# Altium integrated library Xilinx XC17S00.IntLib: 52 symbols
Pins are listed as number, name and electrical type; pins without a type are passive.

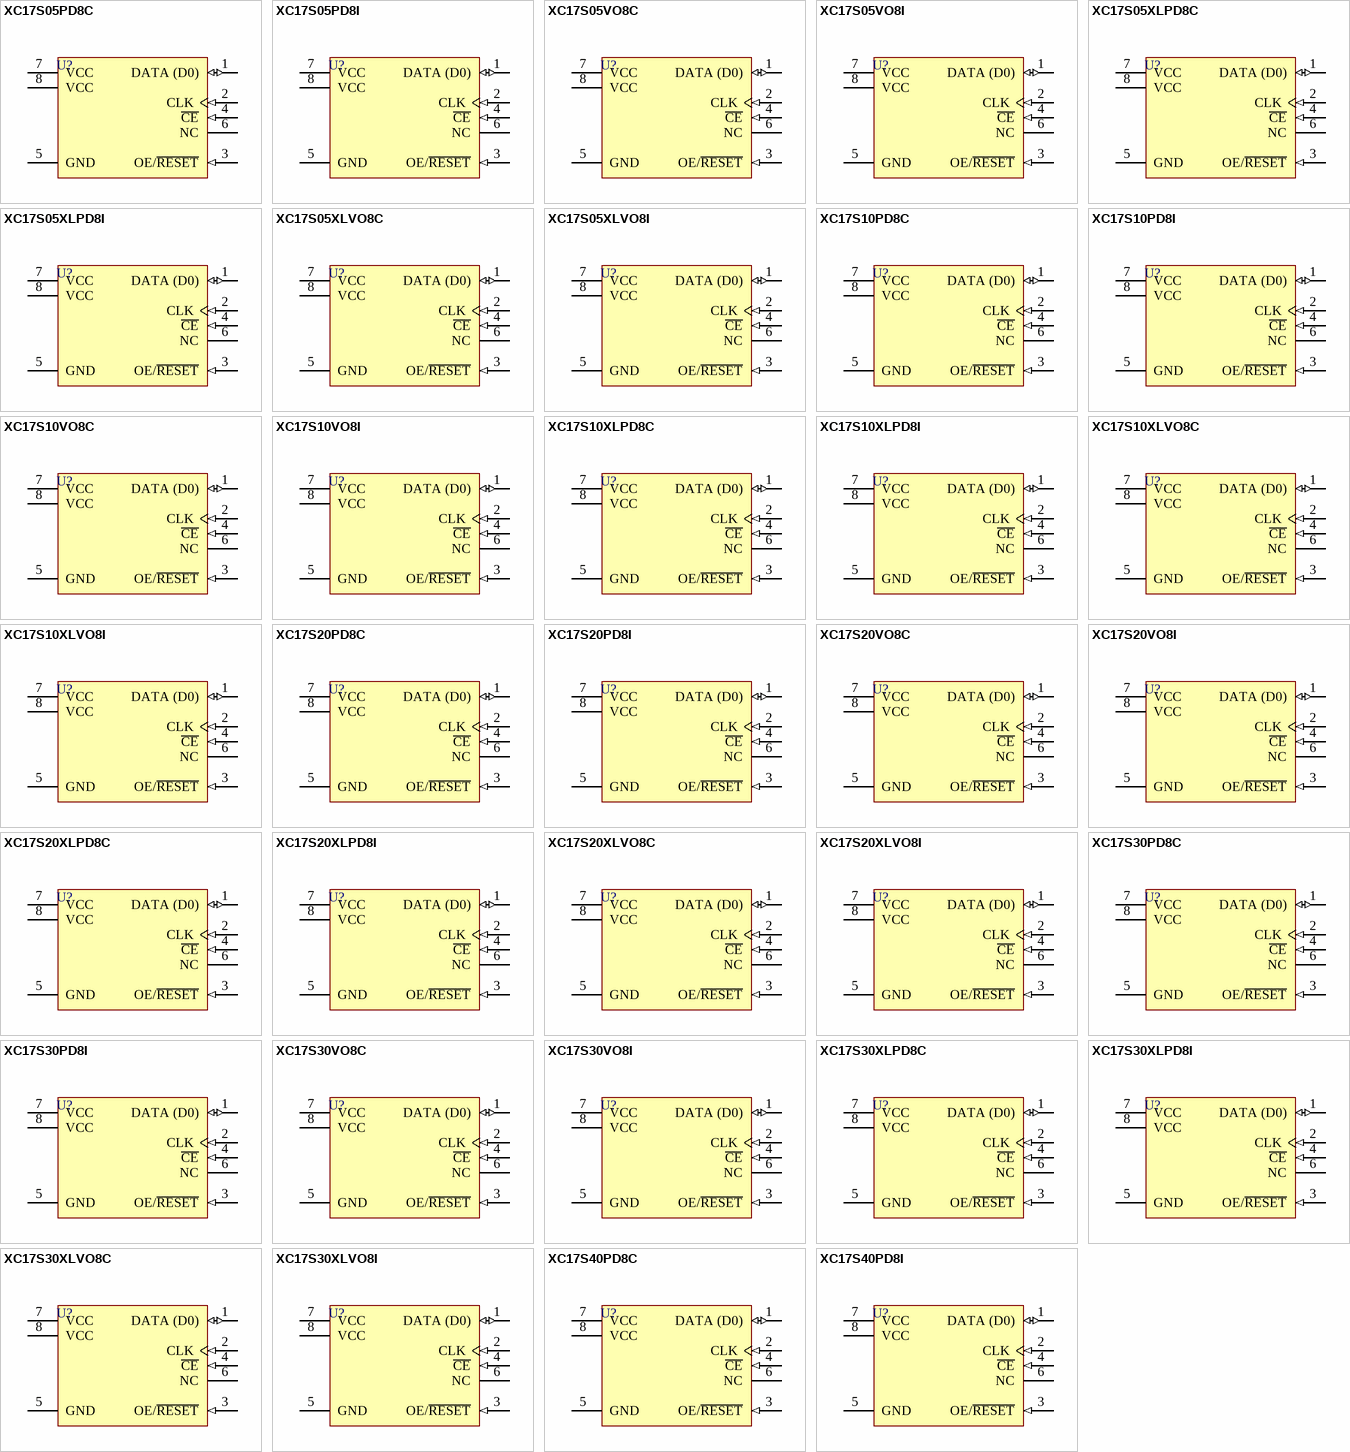
[diagram p0: symbols XC17S05PD8C to XC17S40PD8I]

## XC17S05PD8C
designator U?
XC17S00 Series, One-Time Programmable Configuration 5V PROM, 8-Pin PDIP, XCS05 Compatible, Commercial Grade; PackageDocument: ver1.1, Apr-2001; Published: 17-Dec-2003; DatasheetDocument: ver1.1, Nov-2002; PackageReference: PD8; Publisher: Altium Limited; Code_JEDEC: MS-001-BA
footprint PD8 (8-Pin Plastic DIP (PD8))
pins: 1 DATA (D0) (io) "Data Output.", 2 CLK (in) "Clock input for internal address counter.", 3 OE/~{RESET} (in) "DATA Output Enable/Address Counter Reset", 4 ~{CE} (in) "Reset internal Address Counter, Disable DATA Output, Force device into Standby Mode.", 5 GND (power) "Ground.", 6 NC "No Connection.", 7 VCC (power) "Positive Supply.", 8 VCC (power) "Positive Supply."

## XC17S05PD8I
designator U?
XC17S00 Series, One-Time Programmable Configuration 5V PROM, 8-Pin PDIP, XCS05 Compatible, Industrial Grade; PackageDocument: ver1.1, Apr-2001; Published: 17-Dec-2003; DatasheetDocument: ver1.1, Nov-2002; PackageReference: PD8; Publisher: Altium Limited; Code_JEDEC: MS-001-BA
footprint PD8 (8-Pin Plastic DIP (PD8))
pins: 1 DATA (D0) (io) "Data Output.", 2 CLK (in) "Clock input for internal address counter.", 3 OE/~{RESET} (in) "DATA Output Enable/Address Counter Reset", 4 ~{CE} (in) "Reset internal Address Counter, Disable DATA Output, Force device into Standby Mode.", 5 GND (power) "Ground.", 6 NC "No Connection.", 7 VCC (power) "Positive Supply.", 8 VCC (power) "Positive Supply."

## XC17S05VO8C
designator U?
XC17S00 Series, One-Time Programmable Configuration 5V PROM, 8-Pin TSOP, XCS05 Compatible, Commercial Grade; PackageDocument: ver1.1, Apr-2001; Published: 17-Dec-2003; DatasheetDocument: ver1.1, Nov-2002; PackageReference: VO8; Publisher: Altium Limited
footprint VO8 (8-Pin Thin Small-Outline Package (VO8))
pins: 1 DATA (D0) (io) "Data Output.", 2 CLK (in) "Clock input for internal address counter.", 3 OE/~{RESET} (in) "DATA Output Enable/Address Counter Reset", 4 ~{CE} (in) "Reset internal Address Counter, Disable DATA Output, Force device into Standby Mode.", 5 GND (power) "Ground.", 6 NC "No Connection.", 7 VCC (power) "Positive Supply.", 8 VCC (power) "Positive Supply."

## XC17S05VO8I
designator U?
XC17S00 Series, One-Time Programmable Configuration 5V PROM, 8-Pin TSOP, XCS05 Compatible, Industrial Grade; PackageDocument: ver1.1, Apr-2001; Published: 17-Dec-2003; DatasheetDocument: ver1.1, Nov-2002; PackageReference: VO8; Publisher: Altium Limited
footprint VO8 (8-Pin Thin Small-Outline Package (VO8))
pins: 1 DATA (D0) (io) "Data Output.", 2 CLK (in) "Clock input for internal address counter.", 3 OE/~{RESET} (in) "DATA Output Enable/Address Counter Reset", 4 ~{CE} (in) "Reset internal Address Counter, Disable DATA Output, Force device into Standby Mode.", 5 GND (power) "Ground.", 6 NC "No Connection.", 7 VCC (power) "Positive Supply.", 8 VCC (power) "Positive Supply."

## XC17S05XLPD8C
designator U?
XC17S00XL Series, One-Time Programmable Configuration 3.3V PROM, 8-Pin PDIP, XCS05XL Compatible, Commercial Grade; PackageDocument: ver1.1, Apr-2001; Published: 17-Dec-2003; DatasheetDocument: ver1.1, Nov-2002; PackageReference: PD8; Publisher: Altium Limited; Code_JEDEC: MS-001-BA
footprint PD8 (8-Pin Plastic DIP (PD8))
pins: 1 DATA (D0) (io) "Data Output.", 2 CLK (in) "Clock input for internal address counter.", 3 OE/~{RESET} (in) "DATA Output Enable/Address Counter Reset", 4 ~{CE} (in) "Reset internal Address Counter, Disable DATA Output, Force device into Standby Mode.", 5 GND (power) "Ground.", 6 NC "No Connection.", 7 VCC (power) "Positive Supply.", 8 VCC (power) "Positive Supply."

## XC17S05XLPD8I
designator U?
XC17S00XL Series, One-Time Programmable Configuration 3.3V PROM, 8-Pin PDIP, XCS05XL Compatible, Industrial Grade; PackageDocument: ver1.1, Apr-2001; Published: 17-Dec-2003; DatasheetDocument: ver1.1, Nov-2002; PackageReference: PD8; Publisher: Altium Limited; Code_JEDEC: MS-001-BA
footprint PD8 (8-Pin Plastic DIP (PD8))
pins: 1 DATA (D0) (io) "Data Output.", 2 CLK (in) "Clock input for internal address counter.", 3 OE/~{RESET} (in) "DATA Output Enable/Address Counter Reset", 4 ~{CE} (in) "Reset internal Address Counter, Disable DATA Output, Force device into Standby Mode.", 5 GND (power) "Ground.", 6 NC "No Connection.", 7 VCC (power) "Positive Supply.", 8 VCC (power) "Positive Supply."

## XC17S05XLVO8C
designator U?
XC17S00XL Series, One-Time Programmable Configuration 3.3V PROM, 8-Pin TSOP, XCS05XL Compatible, Commercial Grade; PackageDocument: ver1.1, Apr-2001; Published: 17-Dec-2003; DatasheetDocument: ver1.1, Nov-2002; PackageReference: VO8; Publisher: Altium Limited
footprint VO8 (8-Pin Thin Small-Outline Package (VO8))
pins: 1 DATA (D0) (io) "Data Output.", 2 CLK (in) "Clock input for internal address counter.", 3 OE/~{RESET} (in) "DATA Output Enable/Address Counter Reset", 4 ~{CE} (in) "Reset internal Address Counter, Disable DATA Output, Force device into Standby Mode.", 5 GND (power) "Ground.", 6 NC "No Connection.", 7 VCC (power) "Positive Supply.", 8 VCC (power) "Positive Supply."

## XC17S05XLVO8I
designator U?
XC17S00XL Series, One-Time Programmable Configuration 3.3V PROM, 8-Pin TSOP, XCS05XL Compatible, Industrial Grade; PackageDocument: ver1.1, Apr-2001; Published: 17-Dec-2003; DatasheetDocument: ver1.1, Nov-2002; PackageReference: VO8; Publisher: Altium Limited
footprint VO8 (8-Pin Thin Small-Outline Package (VO8))
pins: 1 DATA (D0) (io) "Data Output.", 2 CLK (in) "Clock input for internal address counter.", 3 OE/~{RESET} (in) "DATA Output Enable/Address Counter Reset", 4 ~{CE} (in) "Reset internal Address Counter, Disable DATA Output, Force device into Standby Mode.", 5 GND (power) "Ground.", 6 NC "No Connection.", 7 VCC (power) "Positive Supply.", 8 VCC (power) "Positive Supply."

## XC17S10PD8C
designator U?
XC17S00 Series, One-Time Programmable Configuration 5V PROM, 8-Pin PDIP, XCS10 Compatible, Commercial Grade; PackageDocument: ver1.1, Apr-2001; Published: 17-Dec-2003; DatasheetDocument: ver1.1, Nov-2002; PackageReference: PD8; Publisher: Altium Limited; Code_JEDEC: MS-001-BA
footprint PD8 (8-Pin Plastic DIP (PD8))
pins: 1 DATA (D0) (io) "Data Output.", 2 CLK (in) "Clock input for internal address counter.", 3 OE/~{RESET} (in) "DATA Output Enable/Address Counter Reset", 4 ~{CE} (in) "Reset internal Address Counter, Disable DATA Output, Force device into Standby Mode.", 5 GND (power) "Ground.", 6 NC "No Connection.", 7 VCC (power) "Positive Supply.", 8 VCC (power) "Positive Supply."

## XC17S10PD8I
designator U?
XC17S00 Series, One-Time Programmable Configuration 5V PROM, 8-Pin PDIP, XCS10 Compatible, Industrial Grade; PackageDocument: ver1.1, Apr-2001; Published: 17-Dec-2003; DatasheetDocument: ver1.1, Nov-2002; PackageReference: PD8; Publisher: Altium Limited; Code_JEDEC: MS-001-BA
footprint PD8 (8-Pin Plastic DIP (PD8))
pins: 1 DATA (D0) (io) "Data Output.", 2 CLK (in) "Clock input for internal address counter.", 3 OE/~{RESET} (in) "DATA Output Enable/Address Counter Reset", 4 ~{CE} (in) "Reset internal Address Counter, Disable DATA Output, Force device into Standby Mode.", 5 GND (power) "Ground.", 6 NC "No Connection.", 7 VCC (power) "Positive Supply.", 8 VCC (power) "Positive Supply."

## XC17S10VO8C
designator U?
XC17S00 Series, One-Time Programmable Configuration 5V PROM, 8-Pin TSOP, XCS10 Compatible, Commercial Grade; PackageDocument: ver1.1, Apr-2001; Published: 17-Dec-2003; DatasheetDocument: ver1.1, Nov-2002; PackageReference: VO8; Publisher: Altium Limited
footprint VO8 (8-Pin Thin Small-Outline Package (VO8))
pins: 1 DATA (D0) (io) "Data Output.", 2 CLK (in) "Clock input for internal address counter.", 3 OE/~{RESET} (in) "DATA Output Enable/Address Counter Reset", 4 ~{CE} (in) "Reset internal Address Counter, Disable DATA Output, Force device into Standby Mode.", 5 GND (power) "Ground.", 6 NC "No Connection.", 7 VCC (power) "Positive Supply.", 8 VCC (power) "Positive Supply."

## XC17S10VO8I
designator U?
XC17S00 Series, One-Time Programmable Configuration 5V PROM, 8-Pin TSOP, XCS10 Compatible, Industrial Grade; PackageDocument: ver1.1, Apr-2001; Published: 17-Dec-2003; DatasheetDocument: ver1.1, Nov-2002; PackageReference: VO8; Publisher: Altium Limited
footprint VO8 (8-Pin Thin Small-Outline Package (VO8))
pins: 1 DATA (D0) (io) "Data Output.", 2 CLK (in) "Clock input for internal address counter.", 3 OE/~{RESET} (in) "DATA Output Enable/Address Counter Reset", 4 ~{CE} (in) "Reset internal Address Counter, Disable DATA Output, Force device into Standby Mode.", 5 GND (power) "Ground.", 6 NC "No Connection.", 7 VCC (power) "Positive Supply.", 8 VCC (power) "Positive Supply."

## XC17S10XLPD8C
designator U?
XC17S00XL Series, One-Time Programmable Configuration 3.3V PROM, 8-Pin PDIP, XCS10XL Compatible, Commercial Grade; PackageDocument: ver1.1, Apr-2001; Published: 17-Dec-2003; DatasheetDocument: ver1.1, Nov-2002; PackageReference: PD8; Publisher: Altium Limited; Code_JEDEC: MS-001-BA
footprint PD8 (8-Pin Plastic DIP (PD8))
pins: 1 DATA (D0) (io) "Data Output.", 2 CLK (in) "Clock input for internal address counter.", 3 OE/~{RESET} (in) "DATA Output Enable/Address Counter Reset", 4 ~{CE} (in) "Reset internal Address Counter, Disable DATA Output, Force device into Standby Mode.", 5 GND (power) "Ground.", 6 NC "No Connection.", 7 VCC (power) "Positive Supply.", 8 VCC (power) "Positive Supply."

## XC17S10XLPD8I
designator U?
XC17S00XL Series, One-Time Programmable Configuration 3.3V PROM, 8-Pin PDIP, XCS10XL Compatible, Industrial Grade; PackageDocument: ver1.1, Apr-2001; Published: 17-Dec-2003; DatasheetDocument: ver1.1, Nov-2002; PackageReference: PD8; Publisher: Altium Limited; Code_JEDEC: MS-001-BA
footprint PD8 (8-Pin Plastic DIP (PD8))
pins: 1 DATA (D0) (io) "Data Output.", 2 CLK (in) "Clock input for internal address counter.", 3 OE/~{RESET} (in) "DATA Output Enable/Address Counter Reset", 4 ~{CE} (in) "Reset internal Address Counter, Disable DATA Output, Force device into Standby Mode.", 5 GND (power) "Ground.", 6 NC "No Connection.", 7 VCC (power) "Positive Supply.", 8 VCC (power) "Positive Supply."

## XC17S10XLVO8C
designator U?
XC17S00XL Series, One-Time Programmable Configuration 3.3V PROM, 8-Pin TSOP, XCS10XL Compatible, Commercial Grade; PackageDocument: ver1.1, Apr-2001; Published: 17-Dec-2003; DatasheetDocument: ver1.1, Nov-2002; PackageReference: VO8; Publisher: Altium Limited
footprint VO8 (8-Pin Thin Small-Outline Package (VO8))
pins: 1 DATA (D0) (io) "Data Output.", 2 CLK (in) "Clock input for internal address counter.", 3 OE/~{RESET} (in) "DATA Output Enable/Address Counter Reset", 4 ~{CE} (in) "Reset internal Address Counter, Disable DATA Output, Force device into Standby Mode.", 5 GND (power) "Ground.", 6 NC "No Connection.", 7 VCC (power) "Positive Supply.", 8 VCC (power) "Positive Supply."

## XC17S10XLVO8I
designator U?
XC17S00XL Series, One-Time Programmable Configuration 3.3V PROM, 8-Pin TSOP, XCS10XL Compatible, Industrial Grade; PackageDocument: ver1.1, Apr-2001; Published: 17-Dec-2003; DatasheetDocument: ver1.1, Nov-2002; PackageReference: VO8; Publisher: Altium Limited
footprint VO8 (8-Pin Thin Small-Outline Package (VO8))
pins: 1 DATA (D0) (io) "Data Output.", 2 CLK (in) "Clock input for internal address counter.", 3 OE/~{RESET} (in) "DATA Output Enable/Address Counter Reset", 4 ~{CE} (in) "Reset internal Address Counter, Disable DATA Output, Force device into Standby Mode.", 5 GND (power) "Ground.", 6 NC "No Connection.", 7 VCC (power) "Positive Supply.", 8 VCC (power) "Positive Supply."

## XC17S20PD8C
designator U?
XC17S00 Series, One-Time Programmable Configuration 5V PROM, 8-Pin PDIP, XCS20 Compatible, Commercial Grade; PackageDocument: ver1.1, Apr-2001; Published: 17-Dec-2003; DatasheetDocument: ver1.1, Nov-2002; PackageReference: PD8; Publisher: Altium Limited; Code_JEDEC: MS-001-BA
footprint PD8 (8-Pin Plastic DIP (PD8))
pins: 1 DATA (D0) (io) "Data Output.", 2 CLK (in) "Clock input for internal address counter.", 3 OE/~{RESET} (in) "DATA Output Enable/Address Counter Reset", 4 ~{CE} (in) "Reset internal Address Counter, Disable DATA Output, Force device into Standby Mode.", 5 GND (power) "Ground.", 6 NC "No Connection.", 7 VCC (power) "Positive Supply.", 8 VCC (power) "Positive Supply."

## XC17S20PD8I
designator U?
XC17S00 Series, One-Time Programmable Configuration 5V PROM, 8-Pin PDIP, XCS20 Compatible, Industrial Grade; PackageDocument: ver1.1, Apr-2001; Published: 17-Dec-2003; DatasheetDocument: ver1.1, Nov-2002; PackageReference: PD8; Publisher: Altium Limited; Code_JEDEC: MS-001-BA
footprint PD8 (8-Pin Plastic DIP (PD8))
pins: 1 DATA (D0) (io) "Data Output.", 2 CLK (in) "Clock input for internal address counter.", 3 OE/~{RESET} (in) "DATA Output Enable/Address Counter Reset", 4 ~{CE} (in) "Reset internal Address Counter, Disable DATA Output, Force device into Standby Mode.", 5 GND (power) "Ground.", 6 NC "No Connection.", 7 VCC (power) "Positive Supply.", 8 VCC (power) "Positive Supply."

## XC17S20VO8C
designator U?
XC17S00 Series, One-Time Programmable Configuration 5V PROM, 8-Pin TSOP, XCS20 Compatible, Commercial Grade; PackageDocument: ver1.1, Apr-2001; Published: 17-Dec-2003; DatasheetDocument: ver1.1, Nov-2002; PackageReference: VO8; Publisher: Altium Limited
footprint VO8 (8-Pin Thin Small-Outline Package (VO8))
pins: 1 DATA (D0) (io) "Data Output.", 2 CLK (in) "Clock input for internal address counter.", 3 OE/~{RESET} (in) "DATA Output Enable/Address Counter Reset", 4 ~{CE} (in) "Reset internal Address Counter, Disable DATA Output, Force device into Standby Mode.", 5 GND (power) "Ground.", 6 NC "No Connection.", 7 VCC (power) "Positive Supply.", 8 VCC (power) "Positive Supply."

## XC17S20VO8I
designator U?
XC17S00 Series, One-Time Programmable Configuration 5V PROM, 8-Pin TSOP, XCS20 Compatible, Industrial Grade; PackageDocument: ver1.1, Apr-2001; Published: 17-Dec-2003; DatasheetDocument: ver1.1, Nov-2002; PackageReference: VO8; Publisher: Altium Limited
footprint VO8 (8-Pin Thin Small-Outline Package (VO8))
pins: 1 DATA (D0) (io) "Data Output.", 2 CLK (in) "Clock input for internal address counter.", 3 OE/~{RESET} (in) "DATA Output Enable/Address Counter Reset", 4 ~{CE} (in) "Reset internal Address Counter, Disable DATA Output, Force device into Standby Mode.", 5 GND (power) "Ground.", 6 NC "No Connection.", 7 VCC (power) "Positive Supply.", 8 VCC (power) "Positive Supply."

## XC17S20XLPD8C
designator U?
XC17S00XL Series, One-Time Programmable Configuration 3.3V PROM, 8-Pin PDIP, XCS20XL Compatible, Commercial Grade; PackageDocument: ver1.1, Apr-2001; Published: 17-Dec-2003; DatasheetDocument: ver1.1, Nov-2002; PackageReference: PD8; Publisher: Altium Limited; Code_JEDEC: MS-001-BA
footprint PD8 (8-Pin Plastic DIP (PD8))
pins: 1 DATA (D0) (io) "Data Output.", 2 CLK (in) "Clock input for internal address counter.", 3 OE/~{RESET} (in) "DATA Output Enable/Address Counter Reset", 4 ~{CE} (in) "Reset internal Address Counter, Disable DATA Output, Force device into Standby Mode.", 5 GND (power) "Ground.", 6 NC "No Connection.", 7 VCC (power) "Positive Supply.", 8 VCC (power) "Positive Supply."

## XC17S20XLPD8I
designator U?
XC17S00XL Series, One-Time Programmable Configuration 3.3V PROM, 8-Pin PDIP, XCS20XL Compatible, Industrial Grade; PackageDocument: ver1.1, Apr-2001; Published: 17-Dec-2003; DatasheetDocument: ver1.1, Nov-2002; PackageReference: PD8; Publisher: Altium Limited; Code_JEDEC: MS-001-BA
footprint PD8 (8-Pin Plastic DIP (PD8))
pins: 1 DATA (D0) (io) "Data Output.", 2 CLK (in) "Clock input for internal address counter.", 3 OE/~{RESET} (in) "DATA Output Enable/Address Counter Reset", 4 ~{CE} (in) "Reset internal Address Counter, Disable DATA Output, Force device into Standby Mode.", 5 GND (power) "Ground.", 6 NC "No Connection.", 7 VCC (power) "Positive Supply.", 8 VCC (power) "Positive Supply."

## XC17S20XLVO8C
designator U?
XC17S00XL Series, One-Time Programmable Configuration 3.3V PROM, 8-Pin TSOP, XCS20XL Compatible, Commercial Grade; PackageDocument: ver1.1, Apr-2001; Published: 17-Dec-2003; DatasheetDocument: ver1.1, Nov-2002; PackageReference: VO8; Publisher: Altium Limited
footprint VO8 (8-Pin Thin Small-Outline Package (VO8))
pins: 1 DATA (D0) (io) "Data Output.", 2 CLK (in) "Clock input for internal address counter.", 3 OE/~{RESET} (in) "DATA Output Enable/Address Counter Reset", 4 ~{CE} (in) "Reset internal Address Counter, Disable DATA Output, Force device into Standby Mode.", 5 GND (power) "Ground.", 6 NC "No Connection.", 7 VCC (power) "Positive Supply.", 8 VCC (power) "Positive Supply."

## XC17S20XLVO8I
designator U?
XC17S00XL Series, One-Time Programmable Configuration 3.3V PROM, 8-Pin TSOP, XCS20XL Compatible, Industrial Grade; PackageDocument: ver1.1, Apr-2001; Published: 17-Dec-2003; DatasheetDocument: ver1.1, Nov-2002; PackageReference: VO8; Publisher: Altium Limited
footprint VO8 (8-Pin Thin Small-Outline Package (VO8))
pins: 1 DATA (D0) (io) "Data Output.", 2 CLK (in) "Clock input for internal address counter.", 3 OE/~{RESET} (in) "DATA Output Enable/Address Counter Reset", 4 ~{CE} (in) "Reset internal Address Counter, Disable DATA Output, Force device into Standby Mode.", 5 GND (power) "Ground.", 6 NC "No Connection.", 7 VCC (power) "Positive Supply.", 8 VCC (power) "Positive Supply."

## XC17S30PD8C
designator U?
XC17S00 Series, One-Time Programmable Configuration 5V PROM, 8-Pin PDIP, XCS30 Compatible, Commercial Grade; PackageDocument: ver1.1, Apr-2001; Published: 17-Dec-2003; DatasheetDocument: ver1.1, Nov-2002; PackageReference: PD8; Publisher: Altium Limited; Code_JEDEC: MS-001-BA
footprint PD8 (8-Pin Plastic DIP (PD8))
pins: 1 DATA (D0) (io) "Data Output.", 2 CLK (in) "Clock input for internal address counter.", 3 OE/~{RESET} (in) "DATA Output Enable/Address Counter Reset", 4 ~{CE} (in) "Reset internal Address Counter, Disable DATA Output, Force device into Standby Mode.", 5 GND (power) "Ground.", 6 NC "No Connection.", 7 VCC (power) "Positive Supply.", 8 VCC (power) "Positive Supply."

## XC17S30PD8I
designator U?
XC17S00 Series, One-Time Programmable Configuration 5V PROM, 8-Pin PDIP, XCS30 Compatible, Industrial Grade; PackageDocument: ver1.1, Apr-2001; Published: 17-Dec-2003; DatasheetDocument: ver1.1, Nov-2002; PackageReference: PD8; Publisher: Altium Limited; Code_JEDEC: MS-001-BA
footprint PD8 (8-Pin Plastic DIP (PD8))
pins: 1 DATA (D0) (io) "Data Output.", 2 CLK (in) "Clock input for internal address counter.", 3 OE/~{RESET} (in) "DATA Output Enable/Address Counter Reset", 4 ~{CE} (in) "Reset internal Address Counter, Disable DATA Output, Force device into Standby Mode.", 5 GND (power) "Ground.", 6 NC "No Connection.", 7 VCC (power) "Positive Supply.", 8 VCC (power) "Positive Supply."

## XC17S30VO8C
designator U?
XC17S00 Series, One-Time Programmable Configuration 5V PROM, 8-Pin TSOP, XCS30 Compatible, Commercial Grade; PackageDocument: ver1.1, Apr-2001; Published: 17-Dec-2003; DatasheetDocument: ver1.1, Nov-2002; PackageReference: VO8; Publisher: Altium Limited
footprint VO8 (8-Pin Thin Small-Outline Package (VO8))
pins: 1 DATA (D0) (io) "Data Output.", 2 CLK (in) "Clock input for internal address counter.", 3 OE/~{RESET} (in) "DATA Output Enable/Address Counter Reset", 4 ~{CE} (in) "Reset internal Address Counter, Disable DATA Output, Force device into Standby Mode.", 5 GND (power) "Ground.", 6 NC "No Connection.", 7 VCC (power) "Positive Supply.", 8 VCC (power) "Positive Supply."

## XC17S30VO8I
designator U?
XC17S00 Series, One-Time Programmable Configuration 5V PROM, 8-Pin TSOP, XCS30 Compatible, Industrial Grade; PackageDocument: ver1.1, Apr-2001; Published: 17-Dec-2003; DatasheetDocument: ver1.1, Nov-2002; PackageReference: VO8; Publisher: Altium Limited
footprint VO8 (8-Pin Thin Small-Outline Package (VO8))
pins: 1 DATA (D0) (io) "Data Output.", 2 CLK (in) "Clock input for internal address counter.", 3 OE/~{RESET} (in) "DATA Output Enable/Address Counter Reset", 4 ~{CE} (in) "Reset internal Address Counter, Disable DATA Output, Force device into Standby Mode.", 5 GND (power) "Ground.", 6 NC "No Connection.", 7 VCC (power) "Positive Supply.", 8 VCC (power) "Positive Supply."

## XC17S30XLPD8C
designator U?
XC17S00XL Series, One-Time Programmable Configuration 3.3V PROM, 8-Pin PDIP, XCS30XL Compatible, Commercial Grade; PackageDocument: ver1.1, Apr-2001; Published: 17-Dec-2003; DatasheetDocument: ver1.1, Nov-2002; PackageReference: PD8; Publisher: Altium Limited; Code_JEDEC: MS-001-BA
footprint PD8 (8-Pin Plastic DIP (PD8))
pins: 1 DATA (D0) (io) "Data Output.", 2 CLK (in) "Clock input for internal address counter.", 3 OE/~{RESET} (in) "DATA Output Enable/Address Counter Reset", 4 ~{CE} (in) "Reset internal Address Counter, Disable DATA Output, Force device into Standby Mode.", 5 GND (power) "Ground.", 6 NC "No Connection.", 7 VCC (power) "Positive Supply.", 8 VCC (power) "Positive Supply."

## XC17S30XLPD8I
designator U?
XC17S00XL Series, One-Time Programmable Configuration 3.3V PROM, 8-Pin PDIP, XCS30XL Compatible, Industrial Grade; PackageDocument: ver1.1, Apr-2001; Published: 17-Dec-2003; DatasheetDocument: ver1.1, Nov-2002; PackageReference: PD8; Publisher: Altium Limited; Code_JEDEC: MS-001-BA
footprint PD8 (8-Pin Plastic DIP (PD8))
pins: 1 DATA (D0) (io) "Data Output.", 2 CLK (in) "Clock input for internal address counter.", 3 OE/~{RESET} (in) "DATA Output Enable/Address Counter Reset", 4 ~{CE} (in) "Reset internal Address Counter, Disable DATA Output, Force device into Standby Mode.", 5 GND (power) "Ground.", 6 NC "No Connection.", 7 VCC (power) "Positive Supply.", 8 VCC (power) "Positive Supply."

## XC17S30XLVO8C
designator U?
XC17S00XL Series, One-Time Programmable Configuration 3.3V PROM, 8-Pin TSOP, XCS30XL Compatible, Commercial Grade; PackageDocument: ver1.1, Apr-2001; Published: 17-Dec-2003; DatasheetDocument: ver1.1, Nov-2002; PackageReference: VO8; Publisher: Altium Limited
footprint VO8 (8-Pin Thin Small-Outline Package (VO8))
pins: 1 DATA (D0) (io) "Data Output.", 2 CLK (in) "Clock input for internal address counter.", 3 OE/~{RESET} (in) "DATA Output Enable/Address Counter Reset", 4 ~{CE} (in) "Reset internal Address Counter, Disable DATA Output, Force device into Standby Mode.", 5 GND (power) "Ground.", 6 NC "No Connection.", 7 VCC (power) "Positive Supply.", 8 VCC (power) "Positive Supply."

## XC17S30XLVO8I
designator U?
XC17S00XL Series, One-Time Programmable Configuration 3.3V PROM, 8-Pin TSOP, XCS30XL Compatible, Industrial Grade; PackageDocument: ver1.1, Apr-2001; Published: 17-Dec-2003; DatasheetDocument: ver1.1, Nov-2002; PackageReference: VO8; Publisher: Altium Limited
footprint VO8 (8-Pin Thin Small-Outline Package (VO8))
pins: 1 DATA (D0) (io) "Data Output.", 2 CLK (in) "Clock input for internal address counter.", 3 OE/~{RESET} (in) "DATA Output Enable/Address Counter Reset", 4 ~{CE} (in) "Reset internal Address Counter, Disable DATA Output, Force device into Standby Mode.", 5 GND (power) "Ground.", 6 NC "No Connection.", 7 VCC (power) "Positive Supply.", 8 VCC (power) "Positive Supply."

## XC17S40PD8C
designator U?
XC17S00 Series, One-Time Programmable Configuration 5V PROM, 8-Pin PDIP, XCS40 Compatible, Commercial Grade; PackageDocument: ver1.1, Apr-2001; Published: 17-Dec-2003; DatasheetDocument: ver1.1, Nov-2002; PackageReference: PD8; Publisher: Altium Limited; Code_JEDEC: MS-001-BA
footprint PD8 (8-Pin Plastic DIP (PD8))
pins: 1 DATA (D0) (io) "Data Output.", 2 CLK (in) "Clock input for internal address counter.", 3 OE/~{RESET} (in) "DATA Output Enable/Address Counter Reset", 4 ~{CE} (in) "Reset internal Address Counter, Disable DATA Output, Force device into Standby Mode.", 5 GND (power) "Ground.", 6 NC "No Connection.", 7 VCC (power) "Positive Supply.", 8 VCC (power) "Positive Supply."

## XC17S40PD8I
designator U?
XC17S00 Series, One-Time Programmable Configuration 5V PROM, 8-Pin PDIP, XCS40 Compatible, Industrial Grade; PackageDocument: ver1.1, Apr-2001; Published: 17-Dec-2003; DatasheetDocument: ver1.1, Nov-2002; PackageReference: PD8; Publisher: Altium Limited; Code_JEDEC: MS-001-BA
footprint PD8 (8-Pin Plastic DIP (PD8))
pins: 1 DATA (D0) (io) "Data Output.", 2 CLK (in) "Clock input for internal address counter.", 3 OE/~{RESET} (in) "DATA Output Enable/Address Counter Reset", 4 ~{CE} (in) "Reset internal Address Counter, Disable DATA Output, Force device into Standby Mode.", 5 GND (power) "Ground.", 6 NC "No Connection.", 7 VCC (power) "Positive Supply.", 8 VCC (power) "Positive Supply."

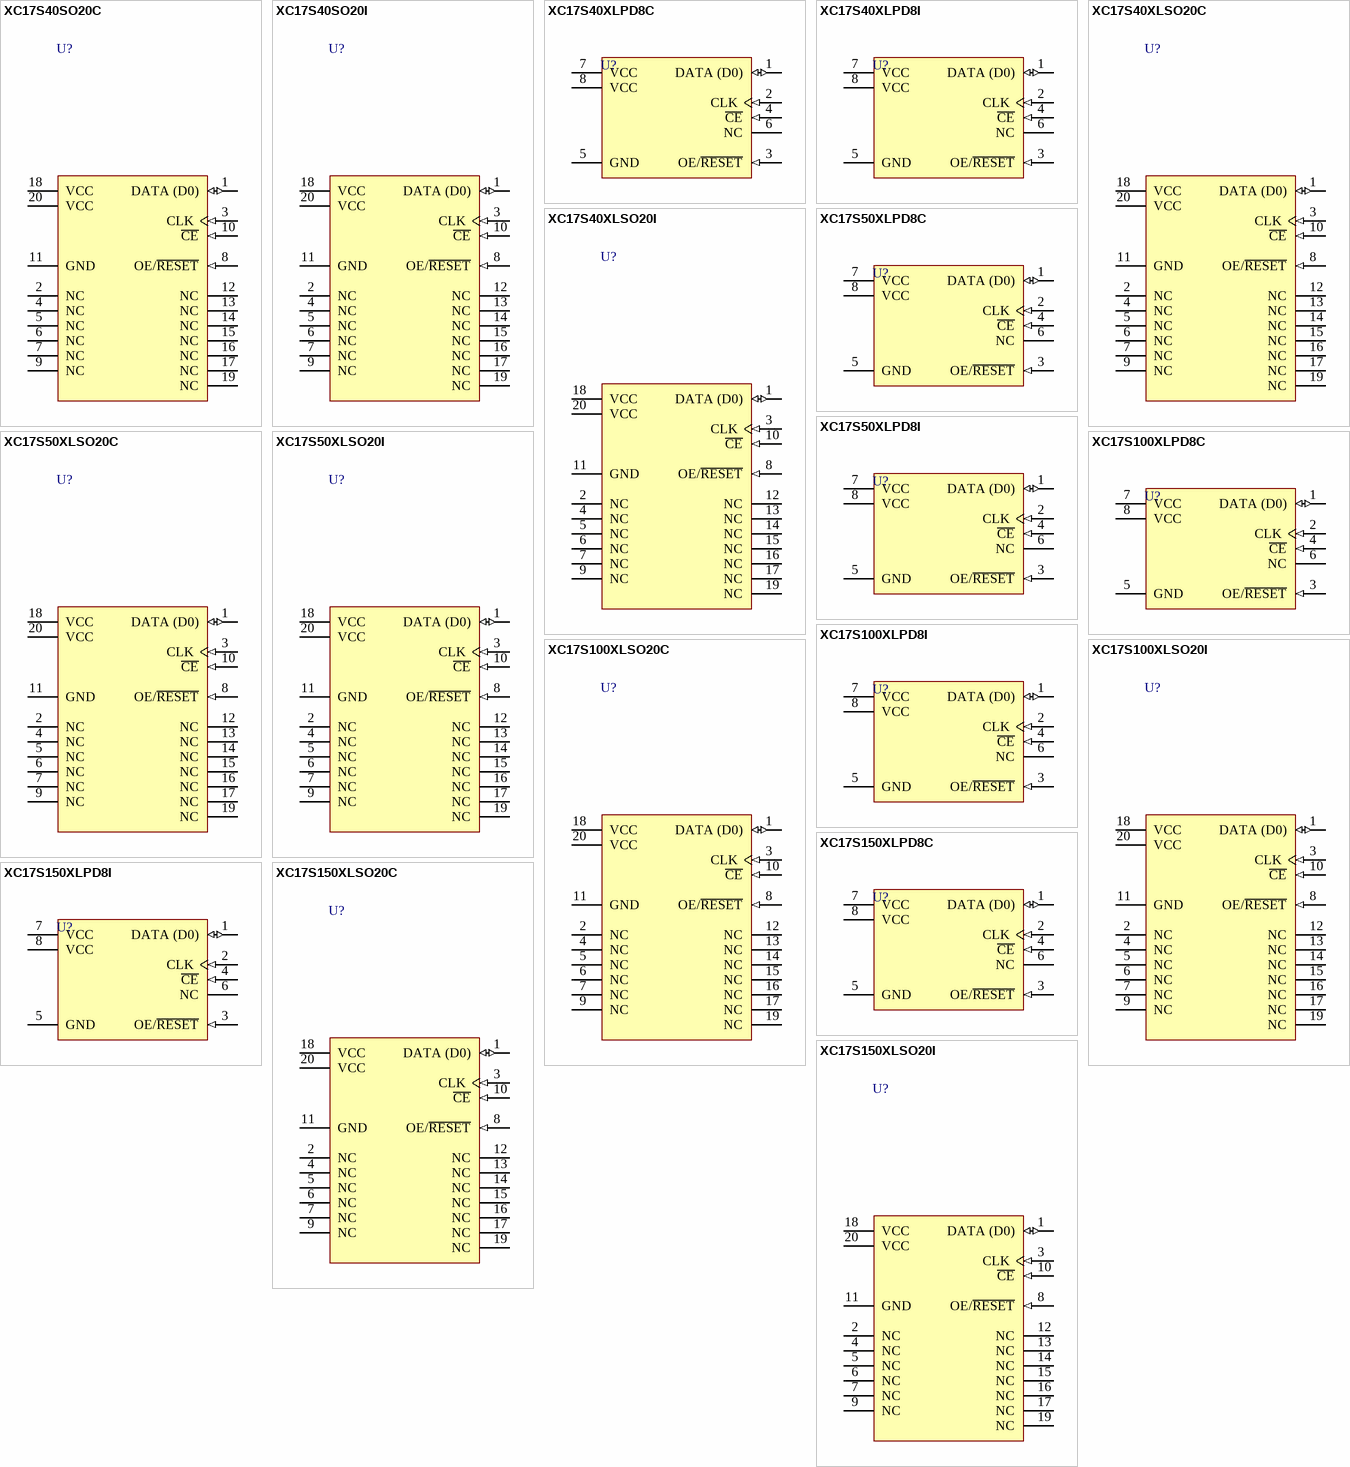
[diagram p1: symbols XC17S40SO20C to XC17S150XLSO20I]

## XC17S40SO20C
designator U?
XC17S00 Series, One-Time Programmable Configuration 5V PROM, 20-Pin SOIC, XCS40 Compatible, Commercial Grade; PackageDocument: ver1.0, Jun-2000; Published: 17-Dec-2003; DatasheetDocument: ver1.1, Nov-2002; PackageReference: SO20; Publisher: Altium Limited; Code_JEDEC: MS-013-AC
footprint SO20 (20-Pin Small-Outline Package (SO20))
pins: 1 DATA (D0) (io) "Data Output.", 2 NC "No Connection.", 3 CLK (in) "Clock input for internal address counter.", 4 NC "No Connection.", 5 NC "No Connection.", 6 NC "No Connection.", 7 NC "No Connection.", 8 OE/~{RESET} (in) "DATA Output Enable/Address Counter Reset", 9 NC "No Connection.", 10 ~{CE} (in) "Reset internal Address Counter, Disable DATA Output, Force device into Standby Mode.", 11 GND (power) "Ground.", 12 NC "No Connection.", 13 NC "No Connection.", 14 NC "No Connection.", 15 NC "No Connection.", 16 NC "No Connection.", 17 NC "No Connection.", 18 VCC (power) "Positive Supply.", 19 NC "No Connection.", 20 VCC (power) "Positive Supply."

## XC17S40SO20I
designator U?
XC17S00 Series, One-Time Programmable Configuration 5V PROM, 20-Pin SOIC, XCS40 Compatible, Industrial Grade; PackageDocument: ver1.0, Jun-2000; Published: 17-Dec-2003; DatasheetDocument: ver1.1, Nov-2002; PackageReference: SO20; Publisher: Altium Limited; Code_JEDEC: MS-013-AC
footprint SO20 (20-Pin Small-Outline Package (SO20))
pins: 1 DATA (D0) (io) "Data Output.", 2 NC "No Connection.", 3 CLK (in) "Clock input for internal address counter.", 4 NC "No Connection.", 5 NC "No Connection.", 6 NC "No Connection.", 7 NC "No Connection.", 8 OE/~{RESET} (in) "DATA Output Enable/Address Counter Reset", 9 NC "No Connection.", 10 ~{CE} (in) "Reset internal Address Counter, Disable DATA Output, Force device into Standby Mode.", 11 GND (power) "Ground.", 12 NC "No Connection.", 13 NC "No Connection.", 14 NC "No Connection.", 15 NC "No Connection.", 16 NC "No Connection.", 17 NC "No Connection.", 18 VCC (power) "Positive Supply.", 19 NC "No Connection.", 20 VCC (power) "Positive Supply."

## XC17S40XLPD8C
designator U?
XC17S00XL Series, One-Time Programmable Configuration 3.3V PROM, 8-Pin PDIP, XCS40XL Compatible, Commercial Grade; PackageDocument: ver1.1, Apr-2001; Published: 17-Dec-2003; DatasheetDocument: ver1.1, Nov-2002; PackageReference: PD8; Publisher: Altium Limited; Code_JEDEC: MS-001-BA
footprint PD8 (8-Pin Plastic DIP (PD8))
pins: 1 DATA (D0) (io) "Data Output.", 2 CLK (in) "Clock input for internal address counter.", 3 OE/~{RESET} (in) "DATA Output Enable/Address Counter Reset", 4 ~{CE} (in) "Reset internal Address Counter, Disable DATA Output, Force device into Standby Mode.", 5 GND (power) "Ground.", 6 NC "No Connection.", 7 VCC (power) "Positive Supply.", 8 VCC (power) "Positive Supply."

## XC17S40XLPD8I
designator U?
XC17S00XL Series, One-Time Programmable Configuration 3.3V PROM, 8-Pin PDIP, XCS40XL Compatible, Industrial Grade; PackageDocument: ver1.1, Apr-2001; Published: 17-Dec-2003; DatasheetDocument: ver1.1, Nov-2002; PackageReference: PD8; Publisher: Altium Limited; Code_JEDEC: MS-001-BA
footprint PD8 (8-Pin Plastic DIP (PD8))
pins: 1 DATA (D0) (io) "Data Output.", 2 CLK (in) "Clock input for internal address counter.", 3 OE/~{RESET} (in) "DATA Output Enable/Address Counter Reset", 4 ~{CE} (in) "Reset internal Address Counter, Disable DATA Output, Force device into Standby Mode.", 5 GND (power) "Ground.", 6 NC "No Connection.", 7 VCC (power) "Positive Supply.", 8 VCC (power) "Positive Supply."

## XC17S40XLSO20C
designator U?
XC17S00XL Series, One-Time Programmable Configuration 3.3V PROM, 20-Pin SOIC, XCS40XL Compatible, Commercial Grade; PackageDocument: ver1.0, Jun-2000; Published: 17-Dec-2003; DatasheetDocument: ver1.1, Nov-2002; PackageReference: SO20; Publisher: Altium Limited; Code_JEDEC: MS-013-AC
footprint SO20 (20-Pin Small-Outline Package (SO20))
pins: 1 DATA (D0) (io) "Data Output.", 2 NC "No Connection.", 3 CLK (in) "Clock input for internal address counter.", 4 NC "No Connection.", 5 NC "No Connection.", 6 NC "No Connection.", 7 NC "No Connection.", 8 OE/~{RESET} (in) "DATA Output Enable/Address Counter Reset", 9 NC "No Connection.", 10 ~{CE} (in) "Reset internal Address Counter, Disable DATA Output, Force device into Standby Mode.", 11 GND (power) "Ground.", 12 NC "No Connection.", 13 NC "No Connection.", 14 NC "No Connection.", 15 NC "No Connection.", 16 NC "No Connection.", 17 NC "No Connection.", 18 VCC (power) "Positive Supply.", 19 NC "No Connection.", 20 VCC (power) "Positive Supply."

## XC17S40XLSO20I
designator U?
XC17S00XL Series, One-Time Programmable Configuration 3.3V PROM, 20-Pin SOIC, XCS40XL Compatible, Industrial Grade; PackageDocument: ver1.0, Jun-2000; Published: 17-Dec-2003; DatasheetDocument: ver1.1, Nov-2002; PackageReference: SO20; Publisher: Altium Limited; Code_JEDEC: MS-013-AC
footprint SO20 (20-Pin Small-Outline Package (SO20))
pins: 1 DATA (D0) (io) "Data Output.", 2 NC "No Connection.", 3 CLK (in) "Clock input for internal address counter.", 4 NC "No Connection.", 5 NC "No Connection.", 6 NC "No Connection.", 7 NC "No Connection.", 8 OE/~{RESET} (in) "DATA Output Enable/Address Counter Reset", 9 NC "No Connection.", 10 ~{CE} (in) "Reset internal Address Counter, Disable DATA Output, Force device into Standby Mode.", 11 GND (power) "Ground.", 12 NC "No Connection.", 13 NC "No Connection.", 14 NC "No Connection.", 15 NC "No Connection.", 16 NC "No Connection.", 17 NC "No Connection.", 18 VCC (power) "Positive Supply.", 19 NC "No Connection.", 20 VCC (power) "Positive Supply."

## XC17S50XLPD8C
designator U?
XC17S00XL Series, One-Time Programmable Configuration 3.3V PROM, 8-Pin PDIP, XC2S50 Compatible, Commercial Grade; PackageDocument: ver1.1, Apr-2001; Published: 17-Dec-2003; DatasheetDocument: ver1.1, Nov-2002; PackageReference: PD8; Publisher: Altium Limited; Code_JEDEC: MS-001-BA
footprint PD8 (8-Pin Plastic DIP (PD8))
pins: 1 DATA (D0) (io) "Data Output.", 2 CLK (in) "Clock input for internal address counter.", 3 OE/~{RESET} (in) "DATA Output Enable/Address Counter Reset", 4 ~{CE} (in) "Reset internal Address Counter, Disable DATA Output, Force device into Standby Mode.", 5 GND (power) "Ground.", 6 NC "No Connection.", 7 VCC (power) "Positive Supply.", 8 VCC (power) "Positive Supply."

## XC17S50XLPD8I
designator U?
XC17S00XL Series, One-Time Programmable Configuration 3.3V PROM, 8-Pin PDIP, XC2S50 Compatible, Industrial Grade; PackageDocument: ver1.1, Apr-2001; Published: 17-Dec-2003; DatasheetDocument: ver1.1, Nov-2002; PackageReference: PD8; Publisher: Altium Limited; Code_JEDEC: MS-001-BA
footprint PD8 (8-Pin Plastic DIP (PD8))
pins: 1 DATA (D0) (io) "Data Output.", 2 CLK (in) "Clock input for internal address counter.", 3 OE/~{RESET} (in) "DATA Output Enable/Address Counter Reset", 4 ~{CE} (in) "Reset internal Address Counter, Disable DATA Output, Force device into Standby Mode.", 5 GND (power) "Ground.", 6 NC "No Connection.", 7 VCC (power) "Positive Supply.", 8 VCC (power) "Positive Supply."

## XC17S50XLSO20C
designator U?
XC17S00XL Series, One-Time Programmable Configuration 3.3V PROM, 20-Pin SOIC, XC2S50 Compatible, Commercial Grade; PackageDocument: ver1.0, Jun-2000; Published: 17-Dec-2003; DatasheetDocument: ver1.1, Nov-2002; PackageReference: SO20; Publisher: Altium Limited; Code_JEDEC: MS-013-AC
footprint SO20 (20-Pin Small-Outline Package (SO20))
pins: 1 DATA (D0) (io) "Data Output.", 2 NC "No Connection.", 3 CLK (in) "Clock input for internal address counter.", 4 NC "No Connection.", 5 NC "No Connection.", 6 NC "No Connection.", 7 NC "No Connection.", 8 OE/~{RESET} (in) "DATA Output Enable/Address Counter Reset", 9 NC "No Connection.", 10 ~{CE} (in) "Reset internal Address Counter, Disable DATA Output, Force device into Standby Mode.", 11 GND (power) "Ground.", 12 NC "No Connection.", 13 NC "No Connection.", 14 NC "No Connection.", 15 NC "No Connection.", 16 NC "No Connection.", 17 NC "No Connection.", 18 VCC (power) "Positive Supply.", 19 NC "No Connection.", 20 VCC (power) "Positive Supply."

## XC17S50XLSO20I
designator U?
XC17S00XL Series, One-Time Programmable Configuration 3.3V PROM, 20-Pin SOIC, XC2S50 Compatible, Industrial Grade; PackageDocument: ver1.0, Jun-2000; Published: 17-Dec-2003; DatasheetDocument: ver1.1, Nov-2002; PackageReference: SO20; Publisher: Altium Limited; Code_JEDEC: MS-013-AC
footprint SO20 (20-Pin Small-Outline Package (SO20))
pins: 1 DATA (D0) (io) "Data Output.", 2 NC "No Connection.", 3 CLK (in) "Clock input for internal address counter.", 4 NC "No Connection.", 5 NC "No Connection.", 6 NC "No Connection.", 7 NC "No Connection.", 8 OE/~{RESET} (in) "DATA Output Enable/Address Counter Reset", 9 NC "No Connection.", 10 ~{CE} (in) "Reset internal Address Counter, Disable DATA Output, Force device into Standby Mode.", 11 GND (power) "Ground.", 12 NC "No Connection.", 13 NC "No Connection.", 14 NC "No Connection.", 15 NC "No Connection.", 16 NC "No Connection.", 17 NC "No Connection.", 18 VCC (power) "Positive Supply.", 19 NC "No Connection.", 20 VCC (power) "Positive Supply."

## XC17S100XLPD8C
designator U?
XC17S00XL Series, One-Time Programmable Configuration 3.3V PROM, 8-Pin PDIP, XCS2100 Compatible, Commercial Grade; PackageDocument: ver1.1, Apr-2001; Published: 17-Dec-2003; DatasheetDocument: ver1.1, Nov-2002; PackageReference: PD8; Publisher: Altium Limited; Code_JEDEC: MS-001-BA
footprint PD8 (8-Pin Plastic DIP (PD8))
pins: 1 DATA (D0) (io) "Data Output.", 2 CLK (in) "Clock input for internal address counter.", 3 OE/~{RESET} (in) "DATA Output Enable/Address Counter Reset", 4 ~{CE} (in) "Reset internal Address Counter, Disable DATA Output, Force device into Standby Mode.", 5 GND (power) "Ground.", 6 NC "No Connection.", 7 VCC (power) "Positive Supply.", 8 VCC (power) "Positive Supply."

## XC17S100XLPD8I
designator U?
XC17S00XL Series, One-Time Programmable Configuration 3.3V PROM, 8-Pin PDIP, XCS2100 Compatible, Industrial Grade; PackageDocument: ver1.1, Apr-2001; Published: 17-Dec-2003; DatasheetDocument: ver1.1, Nov-2002; PackageReference: PD8; Publisher: Altium Limited; Code_JEDEC: MS-001-BA
footprint PD8 (8-Pin Plastic DIP (PD8))
pins: 1 DATA (D0) (io) "Data Output.", 2 CLK (in) "Clock input for internal address counter.", 3 OE/~{RESET} (in) "DATA Output Enable/Address Counter Reset", 4 ~{CE} (in) "Reset internal Address Counter, Disable DATA Output, Force device into Standby Mode.", 5 GND (power) "Ground.", 6 NC "No Connection.", 7 VCC (power) "Positive Supply.", 8 VCC (power) "Positive Supply."

## XC17S100XLSO20C
designator U?
XC17S00XL Series, One-Time Programmable Configuration 3.3V PROM, 20-Pin SOIC, XCS2100 Compatible, Commercial Grade; PackageDocument: ver1.0, Jun-2000; Published: 17-Dec-2003; DatasheetDocument: ver1.1, Nov-2002; PackageReference: SO20; Publisher: Altium Limited; Code_JEDEC: MS-013-AC
footprint SO20 (20-Pin Small-Outline Package (SO20))
pins: 1 DATA (D0) (io) "Data Output.", 2 NC "No Connection.", 3 CLK (in) "Clock input for internal address counter.", 4 NC "No Connection.", 5 NC "No Connection.", 6 NC "No Connection.", 7 NC "No Connection.", 8 OE/~{RESET} (in) "DATA Output Enable/Address Counter Reset", 9 NC "No Connection.", 10 ~{CE} (in) "Reset internal Address Counter, Disable DATA Output, Force device into Standby Mode.", 11 GND (power) "Ground.", 12 NC "No Connection.", 13 NC "No Connection.", 14 NC "No Connection.", 15 NC "No Connection.", 16 NC "No Connection.", 17 NC "No Connection.", 18 VCC (power) "Positive Supply.", 19 NC "No Connection.", 20 VCC (power) "Positive Supply."

## XC17S100XLSO20I
designator U?
XC17S00XL Series, One-Time Programmable Configuration 3.3V PROM, 20-Pin SOIC, XCS2100 Compatible, Industrial Grade; PackageDocument: ver1.0, Jun-2000; Published: 17-Dec-2003; DatasheetDocument: ver1.1, Nov-2002; PackageReference: SO20; Publisher: Altium Limited; Code_JEDEC: MS-013-AC
footprint SO20 (20-Pin Small-Outline Package (SO20))
pins: 1 DATA (D0) (io) "Data Output.", 2 NC "No Connection.", 3 CLK (in) "Clock input for internal address counter.", 4 NC "No Connection.", 5 NC "No Connection.", 6 NC "No Connection.", 7 NC "No Connection.", 8 OE/~{RESET} (in) "DATA Output Enable/Address Counter Reset", 9 NC "No Connection.", 10 ~{CE} (in) "Reset internal Address Counter, Disable DATA Output, Force device into Standby Mode.", 11 GND (power) "Ground.", 12 NC "No Connection.", 13 NC "No Connection.", 14 NC "No Connection.", 15 NC "No Connection.", 16 NC "No Connection.", 17 NC "No Connection.", 18 VCC (power) "Positive Supply.", 19 NC "No Connection.", 20 VCC (power) "Positive Supply."

## XC17S150XLPD8C
designator U?
XC17S00XL Series, One-Time Programmable Configuration 3.3V PROM, 8-Pin PDIP, XC2S150 Compatible, Commercial Grade; PackageDocument: ver1.1, Apr-2001; Published: 17-Dec-2003; DatasheetDocument: ver1.1, Nov-2002; PackageReference: PD8; Publisher: Altium Limited; Code_JEDEC: MS-001-BA
footprint PD8 (8-Pin Plastic DIP (PD8))
pins: 1 DATA (D0) (io) "Data Output.", 2 CLK (in) "Clock input for internal address counter.", 3 OE/~{RESET} (in) "DATA Output Enable/Address Counter Reset", 4 ~{CE} (in) "Reset internal Address Counter, Disable DATA Output, Force device into Standby Mode.", 5 GND (power) "Ground.", 6 NC "No Connection.", 7 VCC (power) "Positive Supply.", 8 VCC (power) "Positive Supply."

## XC17S150XLPD8I
designator U?
XC17S00XL Series, One-Time Programmable Configuration 3.3V PROM, 8-Pin PDIP, XC2S150 Compatible, Industrial Grade; PackageDocument: ver1.1, Apr-2001; Published: 17-Dec-2003; DatasheetDocument: ver1.1, Nov-2002; PackageReference: PD8; Publisher: Altium Limited; Code_JEDEC: MS-001-BA
footprint PD8 (8-Pin Plastic DIP (PD8))
pins: 1 DATA (D0) (io) "Data Output.", 2 CLK (in) "Clock input for internal address counter.", 3 OE/~{RESET} (in) "DATA Output Enable/Address Counter Reset", 4 ~{CE} (in) "Reset internal Address Counter, Disable DATA Output, Force device into Standby Mode.", 5 GND (power) "Ground.", 6 NC "No Connection.", 7 VCC (power) "Positive Supply.", 8 VCC (power) "Positive Supply."

## XC17S150XLSO20C
designator U?
XC17S00XL Series, One-Time Programmable Configuration 3.3V PROM, 20-Pin SOIC, XC2S150 Compatible, Commercial Grade; PackageDocument: ver1.0, Jun-2000; Published: 17-Dec-2003; DatasheetDocument: ver1.1, Nov-2002; PackageReference: SO20; Publisher: Altium Limited; Code_JEDEC: MS-013-AC
footprint SO20 (20-Pin Small-Outline Package (SO20))
pins: 1 DATA (D0) (io) "Data Output.", 2 NC "No Connection.", 3 CLK (in) "Clock input for internal address counter.", 4 NC "No Connection.", 5 NC "No Connection.", 6 NC "No Connection.", 7 NC "No Connection.", 8 OE/~{RESET} (in) "DATA Output Enable/Address Counter Reset", 9 NC "No Connection.", 10 ~{CE} (in) "Reset internal Address Counter, Disable DATA Output, Force device into Standby Mode.", 11 GND (power) "Ground.", 12 NC "No Connection.", 13 NC "No Connection.", 14 NC "No Connection.", 15 NC "No Connection.", 16 NC "No Connection.", 17 NC "No Connection.", 18 VCC (power) "Positive Supply.", 19 NC "No Connection.", 20 VCC (power) "Positive Supply."

## XC17S150XLSO20I
designator U?
XC17S00XL Series, One-Time Programmable Configuration 3.3V PROM, 20-Pin SOIC, XC2S150 Compatible, Industrial Grade; PackageDocument: ver1.0, Jun-2000; Published: 17-Dec-2003; DatasheetDocument: ver1.1, Nov-2002; PackageReference: SO20; Publisher: Altium Limited; Code_JEDEC: MS-013-AC
footprint SO20 (20-Pin Small-Outline Package (SO20))
pins: 1 DATA (D0) (io) "Data Output.", 2 NC "No Connection.", 3 CLK (in) "Clock input for internal address counter.", 4 NC "No Connection.", 5 NC "No Connection.", 6 NC "No Connection.", 7 NC "No Connection.", 8 OE/~{RESET} (in) "DATA Output Enable/Address Counter Reset", 9 NC "No Connection.", 10 ~{CE} (in) "Reset internal Address Counter, Disable DATA Output, Force device into Standby Mode.", 11 GND (power) "Ground.", 12 NC "No Connection.", 13 NC "No Connection.", 14 NC "No Connection.", 15 NC "No Connection.", 16 NC "No Connection.", 17 NC "No Connection.", 18 VCC (power) "Positive Supply.", 19 NC "No Connection.", 20 VCC (power) "Positive Supply."